# Altium schematic symbol library Connectors.SchLib: 35 symbols
Pins are listed as number, name and electrical type; pins without a type are passive.

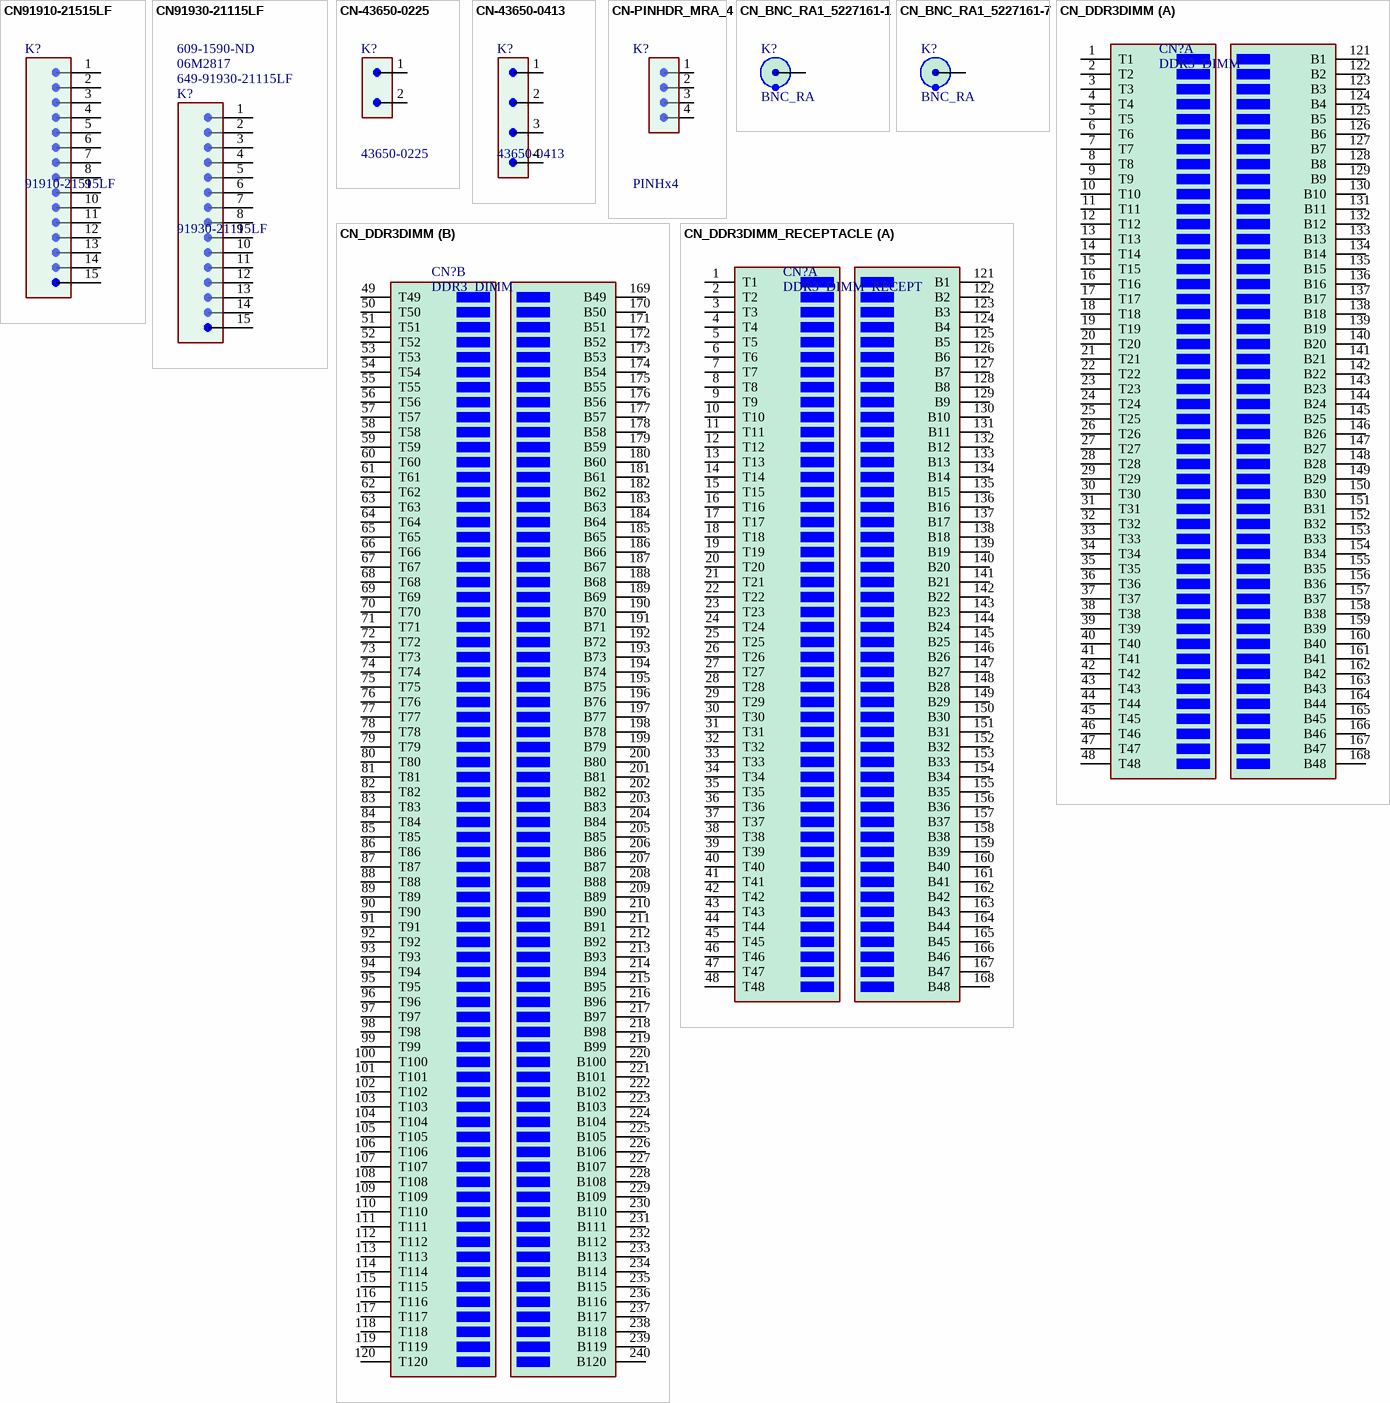
[diagram p0: symbols CN91910-21515LF to CN_DDR3DIMM_RECEPTACLE]

## CN91910-21515LF
designator K?, comment 91910-21515LF
Connector FCI 15 pin R1mm low profile vertical male; Tech: SMDR; Manufacturer: FCI; Manufacturer No: 91910-21515LF; Package: FCI HEADER; Supplier 1: Newark; Supplier Part Number 1: 06M2748; Supplier 2: Mouser; Supplier Part Number 2: 649-91910-21515LF; Supplier 3: Digi-Key; Supplier Part Number 3: 609-1581-ND
signal-integrity model Model Name (Model Description)
footprint CN-91910-21515LF (Connector FCI 15 pin R1mm low profile vertical male)
pins: 1, 2, 3, 4, 5, 6, 7, 8, 9, 10, 11, 12, 13, 14, 15
1 alternate drawing of the same symbol

## CN91930-21115LF
designator K?, comment 91930-21115LF  Supplier Part Number 1: 649-91930-21115LF  Supplier Part Number 2: 06M2817  Supplier Part Number 3: 609-1590-ND
Connector FCI 15 pin R1mm low profile vertical female; Tech: SMDR; Manufacturer: FCI; Manufacturer No: 91930-21115LF; Package: FCI RECPT; Supplier 1: Mouser; Supplier 2: Newark; Supplier 3: Digi-Key
signal-integrity model Model Name (Model Description)
footprint CN-91930-21115LF (Connector FCI 15 pin R1mm low profile vertical female)
pins: 1, 2, 3, 4, 5, 6, 7, 8, 9, 10, 11, 12, 13, 14, 15
1 alternate drawing of the same symbol

## CN-43650-0225
designator K?, comment 43650-0225
Connector Header 2 pin vertical SMD 3mm 4A; Manufacturer No: 0436500225; Manufacturer: Molex; Tech: THDW; Package: MIcroFIT 2pin; Supplier 1: Mouser; Supplier Part Number 1: 538-43650-0225; Supplier 2: Digi-Key; Supplier Part Number 2: WM2638DKR-ND
signal-integrity model Model Name (Model Description)
footprint CN43650-0225 (CN 2 pin Male vertical SMD R3.0)
pins: 1, 2
1 alternate drawing of the same symbol

## CN-43650-0413
designator K?, comment 43650-0413
Connector Header 4 pin rigth-angle SMD 3mm 4A; Manufacturer No: 436500413; Manufacturer: Molex; Tech: SMDR; Package: MIcroFIT 4pin; Supplier 1: Digi-Key; Supplier Part Number 1: WM9176CT-ND; Supplier 2: Mouser; Supplier Part Number 2: 538-43650-0413
signal-integrity model Model Name (Model Description)
footprint CN43650-0413 (CN 4 pin Male right-angle SMD R3.0)
pins: 1, 2, 3, 4
1 alternate drawing of the same symbol

## CN-PINHDR_MRA_4
designator K?, comment PINHx4
Pin header 2.54mm male 4pins rigth angle; Manufacturer: FCI; Manufacturer No: 68016-104HLF; Tech: SMDR; Package: FCI RECPT; Supplier 1: Mouser; Supplier 2: Newark; Supplier 3: Digi-Key; Supplier Part Number 1: 649-68016-104HLF; Supplier Part Number 2: 51Y8063; Supplier Part Number 3: 609-3312-ND
signal-integrity model Model Name (Model Description)
footprint PINHDR1X4_RA (Pin header 1x4 pin R2.54mm right angle)
pins: 1, 2, 3, 4
1 alternate drawing of the same symbol

## CN_BNC_RA1_5227161-1
designator K?, comment BNC_RA
BNC connector PCB Rigth Angle, Female, 4GHz, Through hole; Manufacturer No: 5227161-1; Manufacturer: TE Connectivity; Tech: THDM; Package: BNC; Supplier 1: Mouser; Supplier Part Number 1: 571-5227161-1; Supplier 2: Newark; Supplier Part Number 2: 42K8695; Supplier 3: Digi-Key; Supplier Part Number 3: A32244-ND
signal-integrity model Model Name (Model Description)
footprint CNBNCPCBH3 (Tyco BNC PCB horizontal 1-1337494-0)
pins: 1, 2

## CN_BNC_RA1_5227161-7
designator K?, comment BNC_RA
BNC connector PCB Rigth Angle, Female, 4GHz, Through hole, Low Profile; Manufacturer No: 5227161-7; Manufacturer: TE Connectivity; Tech: THDM; Package: BNC; Supplier 1: Mouser; Supplier Part Number 1: 571-5227161-7; Supplier 2: Digi-Key; Supplier Part Number 2: A32260-ND
signal-integrity model Model Name (Model Description)
footprint CNBNCPCBH4 (TE BNC PCB Right Angle 5227161-7)
pins: 1, 2

## CN_DDR3DIMM
designator CN?, comment DDR3_DIMM  (mechanical)
DDR3 DIMM Card Edge Connection
footprint DDR3_DIMM (DDR3 DIMM module pin setting and layout)
part A pins: 1 T1, 2 T2, 3 T3, 4 T4, 5 T5, 6 T6, 7 T7, 8 T8, 9 T9, 10 T10, 11 T11, 12 T12, 13 T13, 14 T14, 15 T15, 16 T16, 17 T17, 18 T18, 19 T19, 20 T20, 21 T21, 22 T22, 23 T23, 24 T24, 25 T25, 26 T26, 27 T27, 28 T28, 29 T29, 30 T30, 31 T31, 32 T32, 33 T33, 34 T34, 35 T35, 36 T36, 37 T37, 38 T38, 39 T39, 40 T40, 41 T41, 42 T42, 43 T43, 44 T44, 45 T45, 46 T46, 47 T47, 48 T48, 121 B1, 122 B2, 123 B3, 124 B4, 125 B5, 126 B6, 127 B7, 128 B8, 129 B9, 130 B10, 131 B11, 132 B12, 133 B13, 134 B14, 135 B15, 136 B16, 137 B17, 138 B18, 139 B19, 140 B20, 141 B21, 142 B22, 143 B23, 144 B24, 145 B25, 146 B26, 147 B27, 148 B28, 149 B29, 150 B30, 151 B31, 152 B32, 153 B33, 154 B34, 155 B35, 156 B36, 157 B37, 158 B38, 159 B39, 160 B40, 161 B41, 162 B42, 163 B43, 164 B44, 165 B45, 166 B46, 167 B47, 168 B48
part B pins: 49 T49, 50 T50, 51 T51, 52 T52, 53 T53, 54 T54, 55 T55, 56 T56, 57 T57, 58 T58, 59 T59, 60 T60, 61 T61, 62 T62, 63 T63, 64 T64, 65 T65, 66 T66, 67 T67, 68 T68, 69 T69, 70 T70, 71 T71, 72 T72, 73 T73, 74 T74, 75 T75, 76 T76, 77 T77, 78 T78, 79 T79, 80 T80, 81 T81, 82 T82, 83 T83, 84 T84, 85 T85, 86 T86, 87 T87, 88 T88, 89 T89, 90 T90, 91 T91, 92 T92, 93 T93, 94 T94, 95 T95, 96 T96, 97 T97, 98 T98, 99 T99, 100 T100, 101 T101, 102 T102, 103 T103, 104 T104, 105 T105, 106 T106, 107 T107, 108 T108, 109 T109, 110 T110, 111 T111, 112 T112, 113 T113, 114 T114, 115 T115, 116 T116, 117 T117, 118 T118, 119 T119, 120 T120, 169 B49, 170 B50, 171 B51, 172 B52, 173 B53, 174 B54, 175 B55, 176 B56, 177 B57, 178 B58, 179 B59, 180 B60, 181 B61, 182 B62, 183 B63, 184 B64, 185 B65, 186 B66, 187 B67, 188 B68, 189 B69, 190 B70, 191 B71, 192 B72, 193 B73, 194 B74, 195 B75, 196 B76, 197 B77, 198 B78, 199 B79, 200 B80, 201 B81, 202 B82, 203 B83, 204 B84, 205 B85, 206 B86, 207 B87, 208 B88, 209 B89, 210 B90, 211 B91, 212 B92, 213 B93, 214 B94, 215 B95, 216 B96, 217 B97, 218 B98, 219 B99, 220 B100, 221 B101, 222 B102, 223 B103, 224 B104, 225 B105, 226 B106, 227 B107, 228 B108, 229 B109, 230 B110, 231 B111, 232 B112, 233 B113, 234 B114, 235 B115, 236 B116, 237 B117, 238 B118, 239 B119, 240 B120
1 alternate drawing of the same symbol

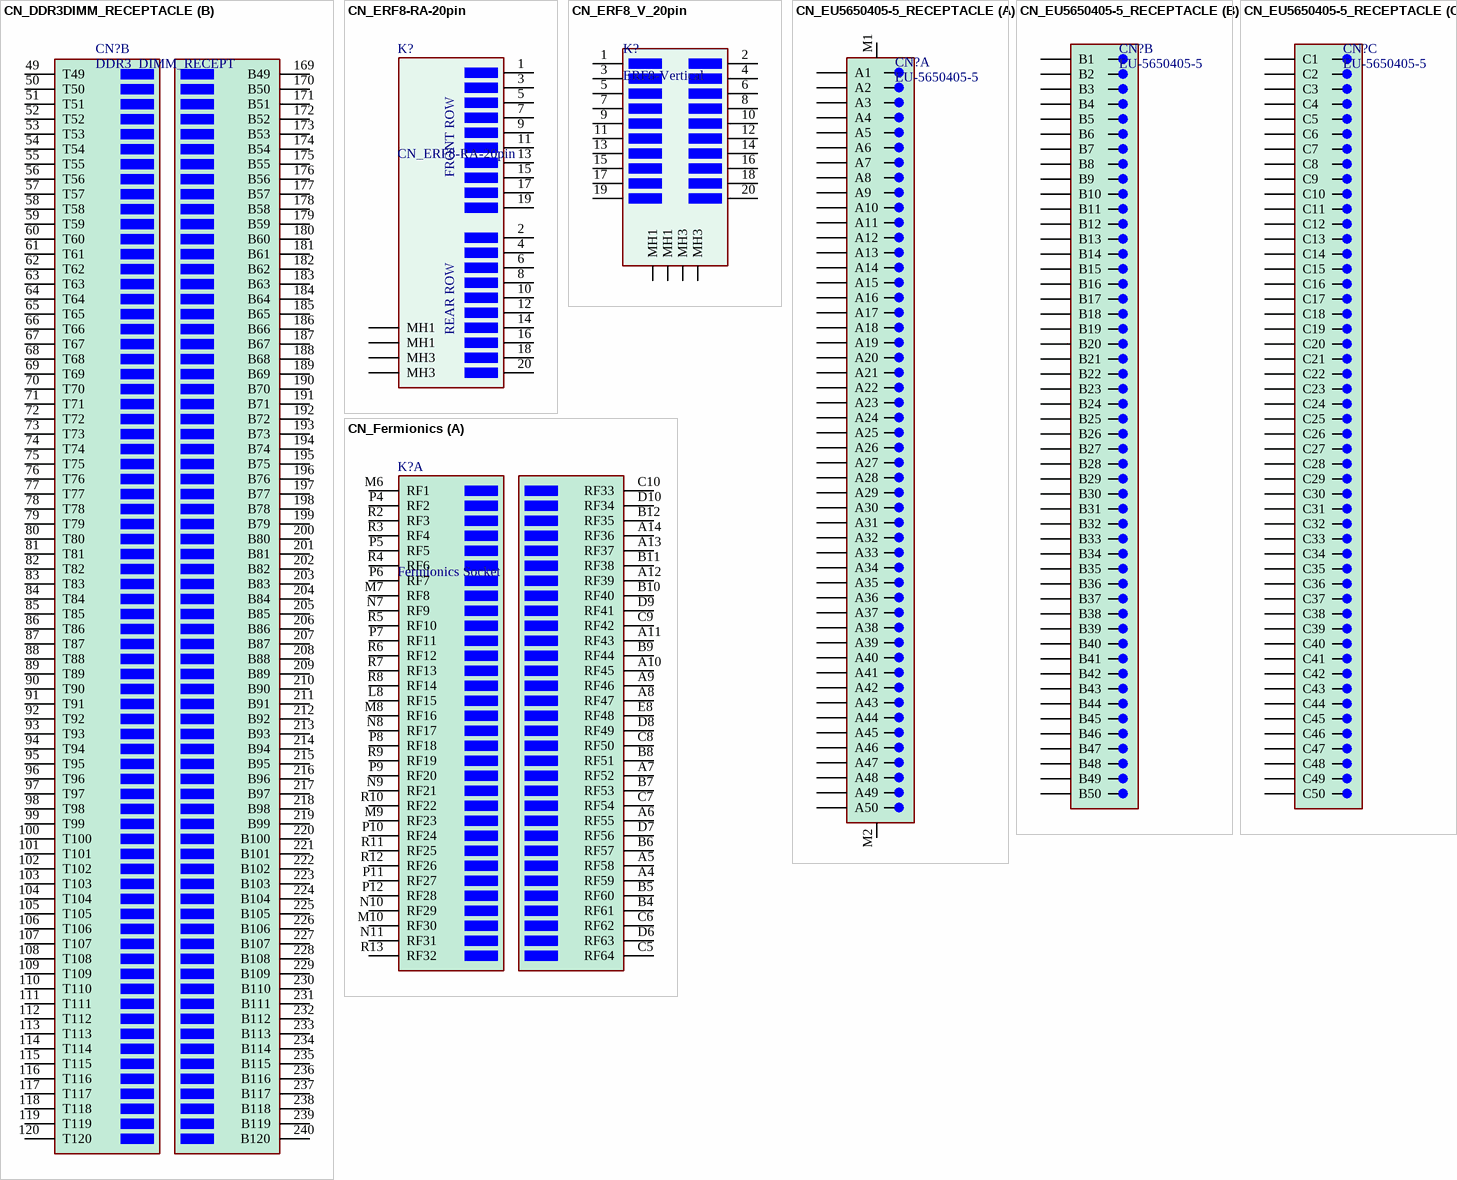
[diagram p1: symbols CN_DDR3DIMM_RECEPTACLE to CN_Fermionics]

## CN_DDR3DIMM_RECEPTACLE
designator CN?, comment DDR3_DIMM_RECEPT
DDR3 DIMM PCB Socket 240pin; Manufacturer: TE Connectivity; Manufacturer No: 1-1932000-1; Tech: THDW; Package: 240pin DIMM; Supplier 1: Mouser; Supplier Part Number 1: 571-1-1932000-1; Supplier 2: Digi-Key; Supplier Part Number 2: A97917-ND
footprint DDR3_DIMM_Socket (DDR3 DIMM PCB Socket with Latch)
part A pins: 1 T1, 2 T2, 3 T3, 4 T4, 5 T5, 6 T6, 7 T7, 8 T8, 9 T9, 10 T10, 11 T11, 12 T12, 13 T13, 14 T14, 15 T15, 16 T16, 17 T17, 18 T18, 19 T19, 20 T20, 21 T21, 22 T22, 23 T23, 24 T24, 25 T25, 26 T26, 27 T27, 28 T28, 29 T29, 30 T30, 31 T31, 32 T32, 33 T33, 34 T34, 35 T35, 36 T36, 37 T37, 38 T38, 39 T39, 40 T40, 41 T41, 42 T42, 43 T43, 44 T44, 45 T45, 46 T46, 47 T47, 48 T48, 121 B1, 122 B2, 123 B3, 124 B4, 125 B5, 126 B6, 127 B7, 128 B8, 129 B9, 130 B10, 131 B11, 132 B12, 133 B13, 134 B14, 135 B15, 136 B16, 137 B17, 138 B18, 139 B19, 140 B20, 141 B21, 142 B22, 143 B23, 144 B24, 145 B25, 146 B26, 147 B27, 148 B28, 149 B29, 150 B30, 151 B31, 152 B32, 153 B33, 154 B34, 155 B35, 156 B36, 157 B37, 158 B38, 159 B39, 160 B40, 161 B41, 162 B42, 163 B43, 164 B44, 165 B45, 166 B46, 167 B47, 168 B48
part B pins: 49 T49, 50 T50, 51 T51, 52 T52, 53 T53, 54 T54, 55 T55, 56 T56, 57 T57, 58 T58, 59 T59, 60 T60, 61 T61, 62 T62, 63 T63, 64 T64, 65 T65, 66 T66, 67 T67, 68 T68, 69 T69, 70 T70, 71 T71, 72 T72, 73 T73, 74 T74, 75 T75, 76 T76, 77 T77, 78 T78, 79 T79, 80 T80, 81 T81, 82 T82, 83 T83, 84 T84, 85 T85, 86 T86, 87 T87, 88 T88, 89 T89, 90 T90, 91 T91, 92 T92, 93 T93, 94 T94, 95 T95, 96 T96, 97 T97, 98 T98, 99 T99, 100 T100, 101 T101, 102 T102, 103 T103, 104 T104, 105 T105, 106 T106, 107 T107, 108 T108, 109 T109, 110 T110, 111 T111, 112 T112, 113 T113, 114 T114, 115 T115, 116 T116, 117 T117, 118 T118, 119 T119, 120 T120, 169 B49, 170 B50, 171 B51, 172 B52, 173 B53, 174 B54, 175 B55, 176 B56, 177 B57, 178 B58, 179 B59, 180 B60, 181 B61, 182 B62, 183 B63, 184 B64, 185 B65, 186 B66, 187 B67, 188 B68, 189 B69, 190 B70, 191 B71, 192 B72, 193 B73, 194 B74, 195 B75, 196 B76, 197 B77, 198 B78, 199 B79, 200 B80, 201 B81, 202 B82, 203 B83, 204 B84, 205 B85, 206 B86, 207 B87, 208 B88, 209 B89, 210 B90, 211 B91, 212 B92, 213 B93, 214 B94, 215 B95, 216 B96, 217 B97, 218 B98, 219 B99, 220 B100, 221 B101, 222 B102, 223 B103, 224 B104, 225 B105, 226 B106, 227 B107, 228 B108, 229 B109, 230 B110, 231 B111, 232 B112, 233 B113, 234 B114, 235 B115, 236 B116, 237 B117, 238 B118, 239 B119, 240 B120
1 alternate drawing of the same symbol

## CN_ERF8-RA-20pin
designator K?  (no BOM)
Samtech ERF8 Rigth Angle Multicoax 20pin; Manufacturer No: ERF8⁃010⁃01⁃S⁃D⁃RA⁃L⁃TR; Tech: SMDR; Package: SMD-RA; Manufacturer: Samtech
signal-integrity model Model Name (Model Description)
footprint CN_ERF8_RA_10pin (Connector Samtec Multicoax ERF8 SMD Rigth Angle)
pins: 1 F1, 2 F2, 3 F3, 4 F4, 5 F5, 6 F6, 7 F7, 8 F8, 9 F9, 10 F10, 11 R11, 12 R12, 13 R13, 14 R14, 15 R15, 16 R16, 17 R17, 18 R18, 19 R19, 20 R20, MH1, MH1, MH3, MH3
1 alternate drawing of the same symbol
text: FRONT ROW; REAR ROW

## CN_ERF8_V_20pin
designator K?, comment ERF8-Vertical
Samtec ERF8 Vertical 20pin Multicoax; Manufacturer No: ERF8-010-05.0-L-DV-L-TR; Tech: SMDR; Package: 20 pin; Manufacturer: Samtec
footprint CN_ERF8_V_20pin (ERF8-010-05.0-L-DV-L-TR)
pins: 1 F1, 2 F2, 3 F3, 4 F4, 5 F5, 6 F6, 7 F7, 8 F8, 9 F9, 10 F10, 11 R11, 12 R12, 13 R13, 14 R14, 15 R15, 16 R16, 17 R17, 18 R18, 19 R19, 20 R20, MH1, MH1, MH3, MH3
1 alternate drawing of the same symbol

## CN_EU5650405-5_RECEPTACLE
designator CN?, comment EU-5650405-5
150pin Europacard 2.54mm Connector; Manufacturer: TE Connectivity; Tech: THDW; Manufacturer No: 5650405-5; Package: 150pin EU; Supplier 1: Mouser; Supplier Part Number 1: 571-5650405-5; Supplier 2: Digi-Key; Supplier Part Number 2: A32848-ND; Supplier 3: Newark; Supplier Part Number 3: 19R2949
footprint EU-5650405-5 (Eurocard PCB Socket 2.54mm)
part A pins: A1, A2, A3, A4, A5, A6, A7, A8, A9, A10, A11, A12, A13, A14, A15, A16, A17, A18, A19, A20, A21, A22, A23, A24, A25, A26, A27, A28, A29, A30, A31, A32, A33, A34, A35, A36, A37, A38, A39, A40, A41, A42, A43, A44, A45, A46, A47, A48, A49, A50, M1, M2
part B pins: B1, B2, B3, B4, B5, B6, B7, B8, B9, B10, B11, B12, B13, B14, B15, B16, B17, B18, B19, B20, B21, B22, B23, B24, B25, B26, B27, B28, B29, B30, B31, B32, B33, B34, B35, B36, B37, B38, B39, B40, B41, B42, B43, B44, B45, B46, B47, B48, B49, B50
part C pins: C1, C2, C3, C4, C5, C6, C7, C8, C9, C10, C11, C12, C13, C14, C15, C16, C17, C18, C19, C20, C21, C22, C23, C24, C25, C26, C27, C28, C29, C30, C31, C32, C33, C34, C35, C36, C37, C38, C39, C40, C41, C42, C43, C44, C45, C46, C47, C48, C49, C50
1 alternate drawing of the same symbol

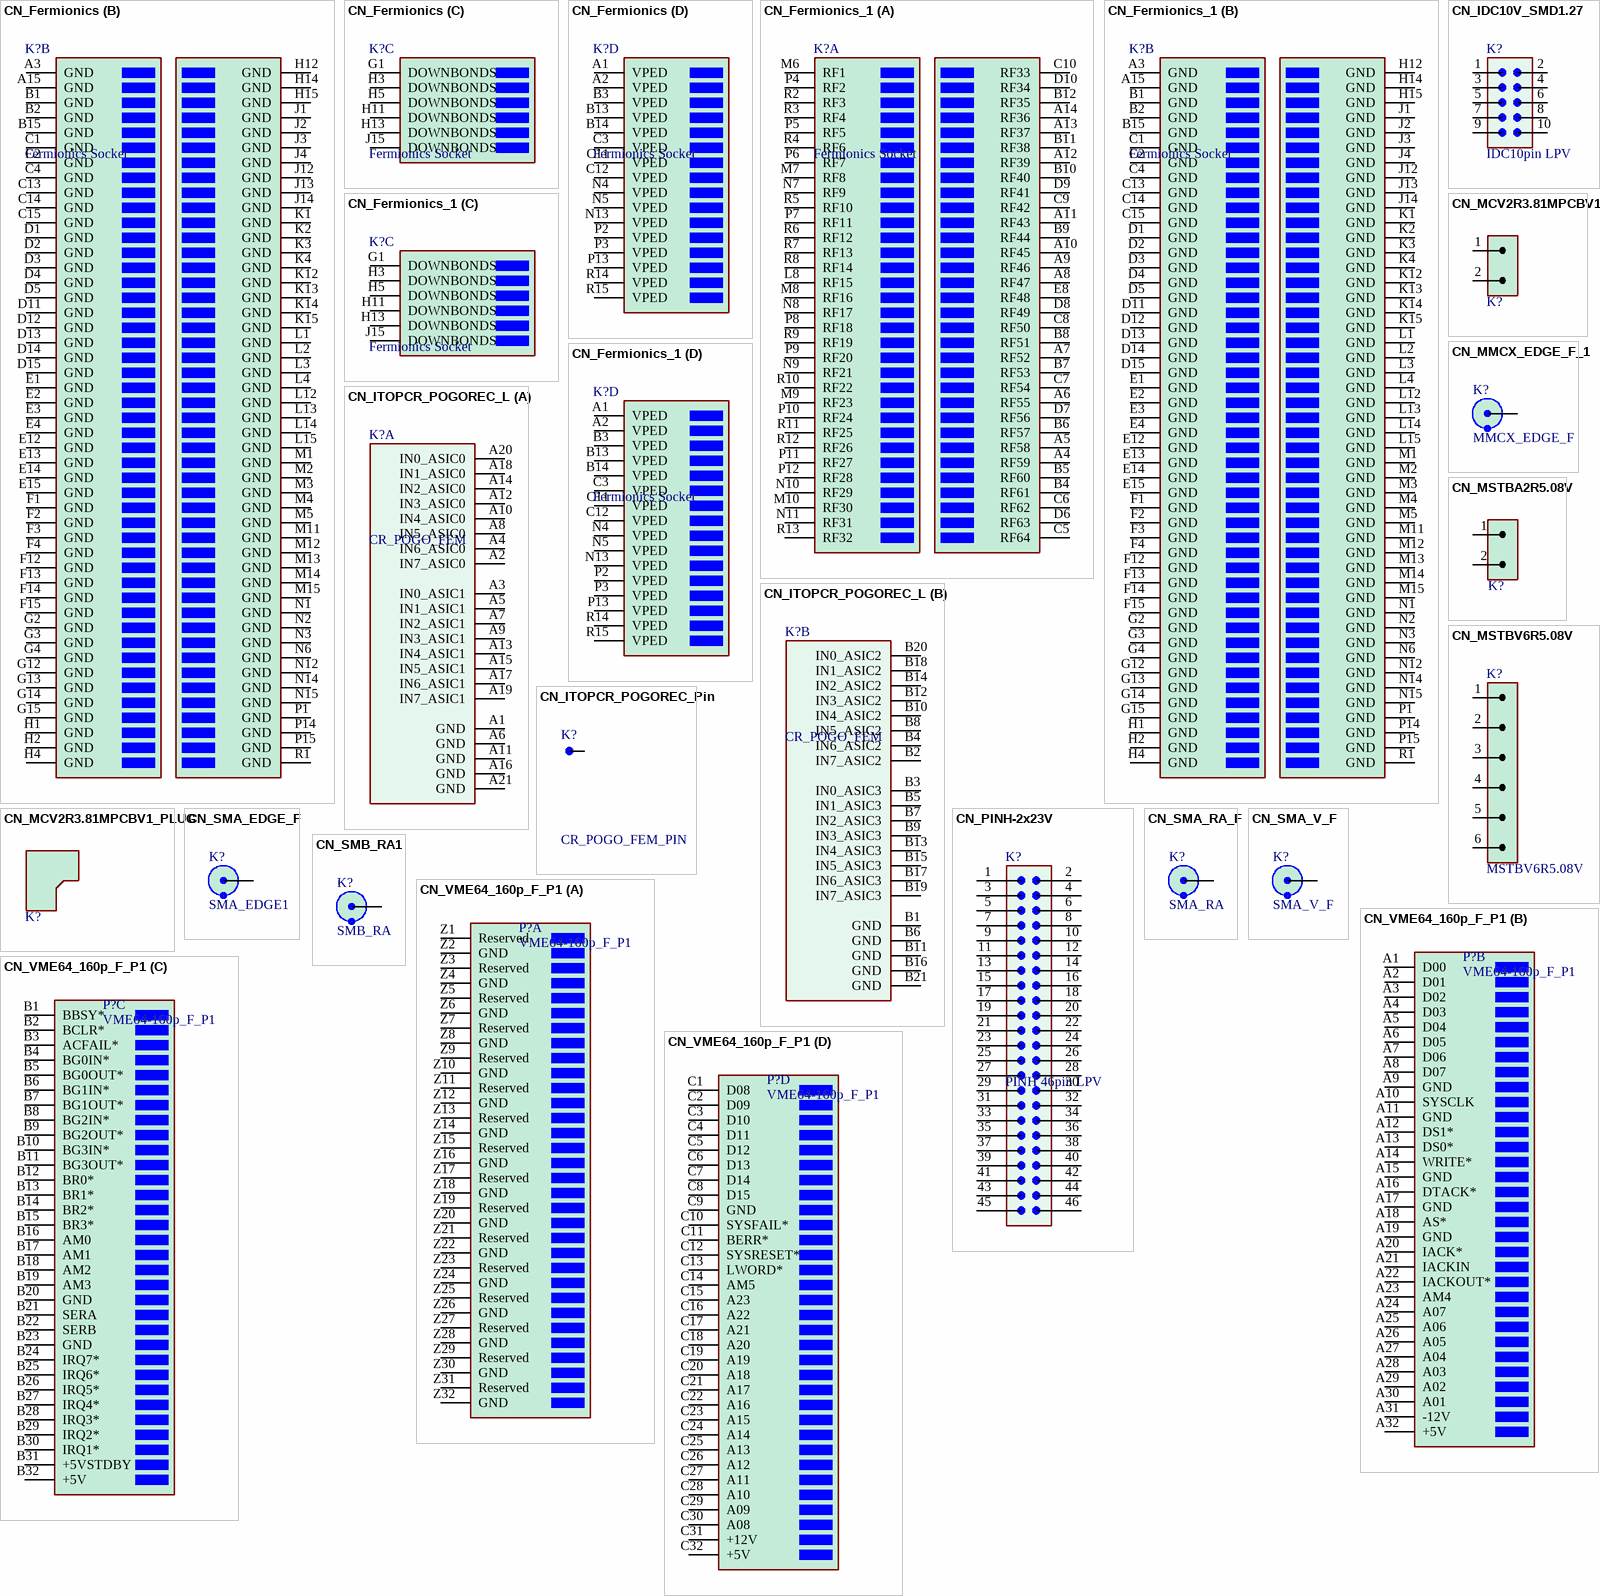
[diagram p2: symbols CN_Fermionics to CN_VME64_160p_F_P1]

## CN_Fermionics
designator K?, comment Fermionics Socket
Fermionics Socket PGA15x15; Manufacturer No: A315-ND; Manufacturer: Aries Electronics; Tech: THDW; Package: PGA 15x15; Supplier 1: Mouser; Supplier Part Number 1: 535-225-PRS15001-12; Supplier 2: Newark; Supplier Part Number 2: 33P9194; Supplier 3: Digi-Key; Supplier Part Number 3: A315-ND
signal-integrity model Model Name (Model Description)
footprint Fermionics Socket 225v2 (Fermionics Socket 225 - Rotated Pinout to match Sensor)
part A pins: A4 RF59, A5 RF58, A6 RF55, A7 RF52, A8 RF47, A9 RF46, A10 RF45, A11 RF43, A12 RF39, A13 RF37, A14 RF36, B4 RF61, B5 RF60, B6 RF57, B7 RF53, B8 RF51, B9 RF44, B10 RF40, B11 RF38, B12 RF35, C5 RF64, C6 RF62, C7 RF54, C8 RF50, C9 RF42, C10 RF33, D6 RF63, D7 RF56, D8 RF49, D9 RF41, D10 RF34, E8 RF48, L8 RF15, M6 RF1, M7 RF8, M8 RF16, M9 RF23, M10 RF30, N7 RF9, N8 RF17, N9 RF21, N10 RF29, N11 RF31, P4 RF2, P5 RF5, P6 RF7, P7 RF11, P8 RF18, P9 RF20, P10 RF24, P11 RF27, P12 RF28, R2 RF3, R3 RF4, R4 RF6, R5 RF10, R6 RF12, R7 RF13, R8 RF14, R9 RF19, R10 RF22, R11 RF25, R12 RF26, R13 RF32
part B pins: A3 GND, A15 GND, B1 GND, B2 GND, B15 GND, C1 GND, C2 GND, C4 GND, C13 GND, C14 GND, C15 GND, D1 GND, D2 GND, D3 GND, D4 GND, D5 GND, D11 GND, D12 GND, D13 GND, D14 GND, D15 GND, E1 GND, E2 GND, E3 GND, E4 GND, E12 GND, E13 GND, E14 GND, E15 GND, F1 GND, F2 GND, F3 GND, F4 GND, F12 GND, F13 GND, F14 GND, F15 GND, G2 GND, G3 GND, G4 GND, G12 GND, G13 GND, G14 GND, G15 GND, H1 GND, H2 GND, H4 GND, H12 GND, H14 GND, H15 GND, J1 GND, J2 GND, J3 GND, J4 GND, J12 GND, J13 GND, J14 GND, K1 GND, K2 GND, K3 GND, K4 GND, K12 GND, K13 GND, K14 GND, K15 GND, L1 GND, L2 GND, L3 GND, L4 GND, L12 GND, L13 GND, L14 GND, L15 GND, M1 GND, M2 GND, M3 GND, M4 GND, M5 GND, M11 GND, M12 GND, M13 GND, M14 GND, M15 GND, N1 GND, N2 GND, N3 GND, N6 GND, N12 GND, N14 GND, N15 GND, P1 GND, P14 GND, P15 GND, R1 GND
part C pins: G1 DOWNBONDS, H3 DOWNBONDS, H5 DOWNBONDS, H11 DOWNBONDS, H13 DOWNBONDS, J15 DOWNBONDS
part D pins: A1 VPED, A2 VPED, B3 VPED, B13 VPED, B14 VPED, C3 VPED, C11 VPED, C12 VPED, N4 VPED, N5 VPED, N13 VPED, P2 VPED, P3 VPED, P13 VPED, R14 VPED, R15 VPED
1 alternate drawing of the same symbol

## CN_Fermionics_1
designator K?, comment Fermionics Socket
Fermionics Socket PGA15x15; Manufacturer No: A315-ND; Manufacturer: Aries Electronics; Tech: THDW; Package: PGA 15x15; Supplier 1: Mouser; Supplier Part Number 1: 535-225-PRS15001-12; Supplier 2: Newark; Supplier Part Number 2: 33P9194; Supplier 3: Digi-Key; Supplier Part Number 3: A315-ND
signal-integrity model Model Name (Model Description)
footprint Fermionics Socket 225v2 (Fermionics Socket 225 - Rotated Pinout to match Sensor)
part A pins: A4 RF59, A5 RF58, A6 RF55, A7 RF52, A8 RF47, A9 RF46, A10 RF45, A11 RF43, A12 RF39, A13 RF37, A14 RF36, B4 RF61, B5 RF60, B6 RF57, B7 RF53, B8 RF51, B9 RF44, B10 RF40, B11 RF38, B12 RF35, C5 RF64, C6 RF62, C7 RF54, C8 RF50, C9 RF42, C10 RF33, D6 RF63, D7 RF56, D8 RF49, D9 RF41, D10 RF34, E8 RF48, L8 RF15, M6 RF1, M7 RF8, M8 RF16, M9 RF23, M10 RF30, N7 RF9, N8 RF17, N9 RF21, N10 RF29, N11 RF31, P4 RF2, P5 RF5, P6 RF7, P7 RF11, P8 RF18, P9 RF20, P10 RF24, P11 RF27, P12 RF28, R2 RF3, R3 RF4, R4 RF6, R5 RF10, R6 RF12, R7 RF13, R8 RF14, R9 RF19, R10 RF22, R11 RF25, R12 RF26, R13 RF32
part B pins: A3 GND, A15 GND, B1 GND, B2 GND, B15 GND, C1 GND, C2 GND, C4 GND, C13 GND, C14 GND, C15 GND, D1 GND, D2 GND, D3 GND, D4 GND, D5 GND, D11 GND, D12 GND, D13 GND, D14 GND, D15 GND, E1 GND, E2 GND, E3 GND, E4 GND, E12 GND, E13 GND, E14 GND, E15 GND, F1 GND, F2 GND, F3 GND, F4 GND, F12 GND, F13 GND, F14 GND, F15 GND, G2 GND, G3 GND, G4 GND, G12 GND, G13 GND, G14 GND, G15 GND, H1 GND, H2 GND, H4 GND, H12 GND, H14 GND, H15 GND, J1 GND, J2 GND, J3 GND, J4 GND, J12 GND, J13 GND, J14 GND, K1 GND, K2 GND, K3 GND, K4 GND, K12 GND, K13 GND, K14 GND, K15 GND, L1 GND, L2 GND, L3 GND, L4 GND, L12 GND, L13 GND, L14 GND, L15 GND, M1 GND, M2 GND, M3 GND, M4 GND, M5 GND, M11 GND, M12 GND, M13 GND, M14 GND, M15 GND, N1 GND, N2 GND, N3 GND, N6 GND, N12 GND, N14 GND, N15 GND, P1 GND, P14 GND, P15 GND, R1 GND
part C pins: G1 DOWNBONDS, H3 DOWNBONDS, H5 DOWNBONDS, H11 DOWNBONDS, H13 DOWNBONDS, J15 DOWNBONDS
part D pins: A1 VPED, A2 VPED, B3 VPED, B13 VPED, B14 VPED, C3 VPED, C11 VPED, C12 VPED, N4 VPED, N5 VPED, N13 VPED, P2 VPED, P3 VPED, P13 VPED, R14 VPED, R15 VPED
1 alternate drawing of the same symbol

## CN_IDC10V_SMD1.27
designator K?, comment IDC10pin LPV
Connector IDC 10 pin vertical 1.27mm SMD; Manufacturer No: 20021521-00010T1LF; Manufacturer: FCI; Package: IDC 10pin 1.27; Tech: SMD; Supplier 1: Mouser; Supplier Part Number 1: 649-200215210010T1LF; Supplier 2: Digi-Key; Supplier Part Number 2: 609-4054-ND
signal-integrity model Model Name (Model Description)
footprint CN_20021521-00010T1LF (Pin header 2x5 pin R1.27mm)
pins: 1, 2, 3, 4, 5, 6, 7, 8, 9, 10
1 alternate drawing of the same symbol

## CN_ITOPCR_POGOREC_L
designator K?, comment CR_POGO_FEM  (no BOM)
ITOP Carrier Pogo Pin Female Receptacle; Manufacturer No: 5739-0-18-15-12-27-10-0; Manufacturer: Mill-Max; Tech: SMDR; Package: SMD adapter
signal-integrity model Model Name (Model Description)
footprint CN_IDL_ITOPCARRIER_POGO_INT (Pogo pis Female interface)
part A pins: A1 GND, A2 IN7_ASIC0, A3 IN0_ASIC1, A4 IN6_ASIC0, A5 IN1_ASIC1, A6 GND, A7 IN2_ASIC1, A8 IN5_ASIC0, A9 IN3_ASIC1, A10 IN4_ASIC0, A11 GND, A12 IN3_ASIC0, A13 IN4_ASIC1, A14 IN2_ASIC0, A15 IN5_ASIC1, A16 GND, A17 IN6_ASIC1, A18 IN1_ASIC0, A19 IN7_ASIC1, A20 IN0_ASIC0, A21 GND
part B pins: B1 GND, B2 IN7_ASIC2, B3 IN0_ASIC3, B4 IN6_ASIC2, B5 IN1_ASIC3, B6 GND, B7 IN2_ASIC3, B8 IN5_ASIC2, B9 IN3_ASIC3, B10 IN4_ASIC2, B11 GND, B12 IN3_ASIC2, B13 IN4_ASIC3, B14 IN2_ASIC2, B15 IN5_ASIC3, B16 GND, B17 IN6_ASIC3, B18 IN1_ASIC2, B19 IN7_ASIC3, B20 IN0_ASIC2, B21 GND
1 alternate drawing of the same symbol

## CN_ITOPCR_POGOREC_Pin
designator K?, comment CR_POGO_FEM_PIN
ITOP Carrier Pogo Pin Female Receptacle; Manufacturer No: 7937-0-00-15-00-00-03-0; Manufacturer: Mill-Max; Tech: SMDR; Package: SMD adapter; Supplier 1: Mouser; Supplier Part Number 1: 575-7937000150000030; Supplier 2: Digi-Key; Supplier Part Number 2: ED90501-ND
signal-integrity model Model Name (Model Description)
1 alternate drawing of the same symbol

## CN_MCV2R3.81MPCBV1
designator K?, comment MCV1.5/2-G-3.81  (value not drawn)
Combicon header 2 pin vertical closed R3.81mm; Manufacturer: Phoenix Contact; Manufacturer No: 1843606; Tech: THDW; Package: CN-3.81R; Supplier 1: Mouser; Supplier Part Number 1: 651-1843606; Supplier 2: Digi-Key; Supplier Part Number 2: 277-5733-ND; Supplier 3: Newark; Supplier Part Number 3: 71C4258
footprint MCV1.5/2G-3.81 (COMBICON 2 POL VER 3.81mm)
pins: 1, 2

## CN_MCV2R3.81MPCBV1_PLUG
designator K?, comment MCV1.5/2-G-3.81_PLUG  (value not drawn)
Combicon plug 2 pin closed R3.81mm; Manufacturer: Phoenix Contact; Manufacturer No: 1840366; Tech: THDW; Package: CN-3.81R; Supplier 1: Mouser; Supplier Part Number 1: 651-1840366; Supplier 2: Digi-Key; Supplier Part Number 2: 277-2417-ND; Supplier 3: Newark; Supplier Part Number 3: 15X0353

## CN_MMCX_EDGE_F_1
designator K?, comment MMCX_EDGE_F
MMCX connector PCB Edge, Female, 6GHz, SMD; Manufacturer No: 0734150963; Manufacturer: Molex; Tech: SMDR; Package: SMA; Supplier 1: Digi-Key; Supplier Part Number 1: WM3786DKR-ND; Supplier 2: Mouser; Supplier Part Number 2: 538-73415-0963; Supplier 3: Newark; Supplier Part Number 3: 56R6573
signal-integrity model Model Name (Model Description)
footprint CNMMCX_J_EDGE (MMCX PCB edge female)
pins: 1, 2, 2

## CN_MSTBA2R5.08V
designator K?, comment MSTBA2R5.08V  (value not drawn)
Combicon header 2 pin vertical closed R5.08mm 12A 300V; Manufacturer: Phoenix Contact; Manufacturer No: 1755736; Tech: THDW; Comment2: 12A 300V; Package: MSTBA5.08R; Supplier 1: Mouser; Supplier Part Number 1: 651-1755736; Supplier 2: Newark; Supplier Part Number 2: 71C4143; Supplier 3: Digi-Key; Supplier Part Number 3: 277-1150-ND
footprint CN_PHOENIX_MSTBVA2,5/2-G-5,08 (MSTBVA2,5/2-G-5,08  2pin vertical)
pins: 1, 2

## CN_MSTBV6R5.08V
designator K?, comment MSTBV6R5.08V
Combicon header 6 pin vertical closed R5.08mm 12A 250V; Manufacturer: Phoenix Contact; Manufacturer No: 1755778; Tech: THDW; Comment2: 12A 250V; Package: CN MSTBA3H; Supplier 1: Newark; Supplier Part Number 1: 71C4147; Supplier 2: Digi-Key; Supplier Part Number 2: 277-1154-ND; Supplier 3: Mouser; Supplier Part Number 3: 651-1755778
footprint CN_PHOENIX_MSTBVA2,5/6-G-5,08 (MSTBVA2,5/6-G-5,08  6pin vertical)
pins: 1, 2, 3, 4, 5, 6

## CN_PINH-2x23V
designator K?, comment PINH 46pin LPV
Connector Pin Header 46 pin, vertical, male header, 2.54mm; Manufacturer: Molex; Manufacturer No: 87758-4616; Tech: THDW; Package: IDC male header; Supplier 1: Mouser; Supplier Part Number 1: 538-87758-4616; Supplier 2: Newark; Supplier Part Number 2: 25M5695; Supplier 3: Digi-Key; Supplier Part Number 3: WM18854-ND
signal-integrity model Model Name (Model Description)
footprint PINHDR2X23V (Pin header 2x23 pin R2.54mm)
footprint PINHDR2X23VBBedition (Pin header 2x23 pin R2.54mm)
pins: 1, 2, 3, 4, 5, 6, 7, 8, 9, 10, 11, 12, 13, 14, 15, 16, 17, 18, 19, 20, 21, 22, 23, 24, 25, 26, 27, 28, 29, 30, 31, 32, 33, 34, 35, 36, 37, 38, 39, 40, 41, 42, 43, 44, 45, 46
1 alternate drawing of the same symbol

## CN_SMA_EDGE_F
designator K?, comment SMA_EDGE1
SMA connector PCB Edge, Female, 18GHz, Through hole; Manufacturer No: 0732511150; Manufacturer: Molex; Tech: SMDR; Package: SMA; Supplier 1: Digi-Key; Supplier Part Number 1: WM5534-ND; Supplier 2: Newark; Supplier Part Number 2: 32M0773; Supplier 3: Mouser; Supplier Part Number 3: 538-73251-1150
signal-integrity model Model Name (Model Description)
footprint CNSMAPCBEDGEC2 (SMA PCB edge female W9.54mm)
pins: 1, 2, 3, 4, 5

## CN_SMA_RA_F
designator K?, comment SMA_RA
SMA connector PCB Rigth Angle, Female, 18GHz, Through hole; Manufacturer No: 73251-2200; Manufacturer: Molex; Tech: THDM; Package: SMA; Supplier 1: Digi-Key; Supplier Part Number 1: WM9352-ND; Supplier 2: Mouser; Supplier Part Number 2: 538-73251-2200; Supplier 3: Newark; Supplier Part Number 3: 56R6514
signal-integrity model Model Name (Model Description)
footprint CNSMAPCBH-1 (SMA connector PCB right angle for panel mount in THDW tech.)
pins: 1, 2, 3, 4, 5

## CN_SMA_V_F
designator K?, comment SMA_V_F
SMA connector PCB Vertical, Female, 18GHz, Through hole; Manufacturer No: 0733910070; Manufacturer: Molex; Tech: THDM; Package: SMA; Supplier 1: Digi-Key; Supplier Part Number 1: WM5544-ND; Supplier 2: Mouser; Supplier Part Number 2: 538-73391-0070
signal-integrity model Model Name (Model Description)
footprint CNSMAPCBV (SMA connector PCB vertical R5.0mm)
pins: 1, 2, 3, 4, 5

## CN_SMB_RA1
designator K?, comment SMB_RA
SMB connector PCB Rigth Angle, Female, 4GHz, Through hole; Manufacturer No: 73100-0097; Manufacturer: Molex; Tech: THDM; Package: SMB; Supplier 1: Mouser; Supplier Part Number 1: 538-73100-0097; Supplier 2: Newark; Supplier Part Number 2: 75K6182; Supplier 3: Digi-Key; Supplier Part Number 3: WM5276-ND
signal-integrity model Model Name (Model Description)
footprint CNSMBPCBH-1 (SMB connector PCB horizontal R5.08mm THT)
pins: 1, 2, 3, 4, 5

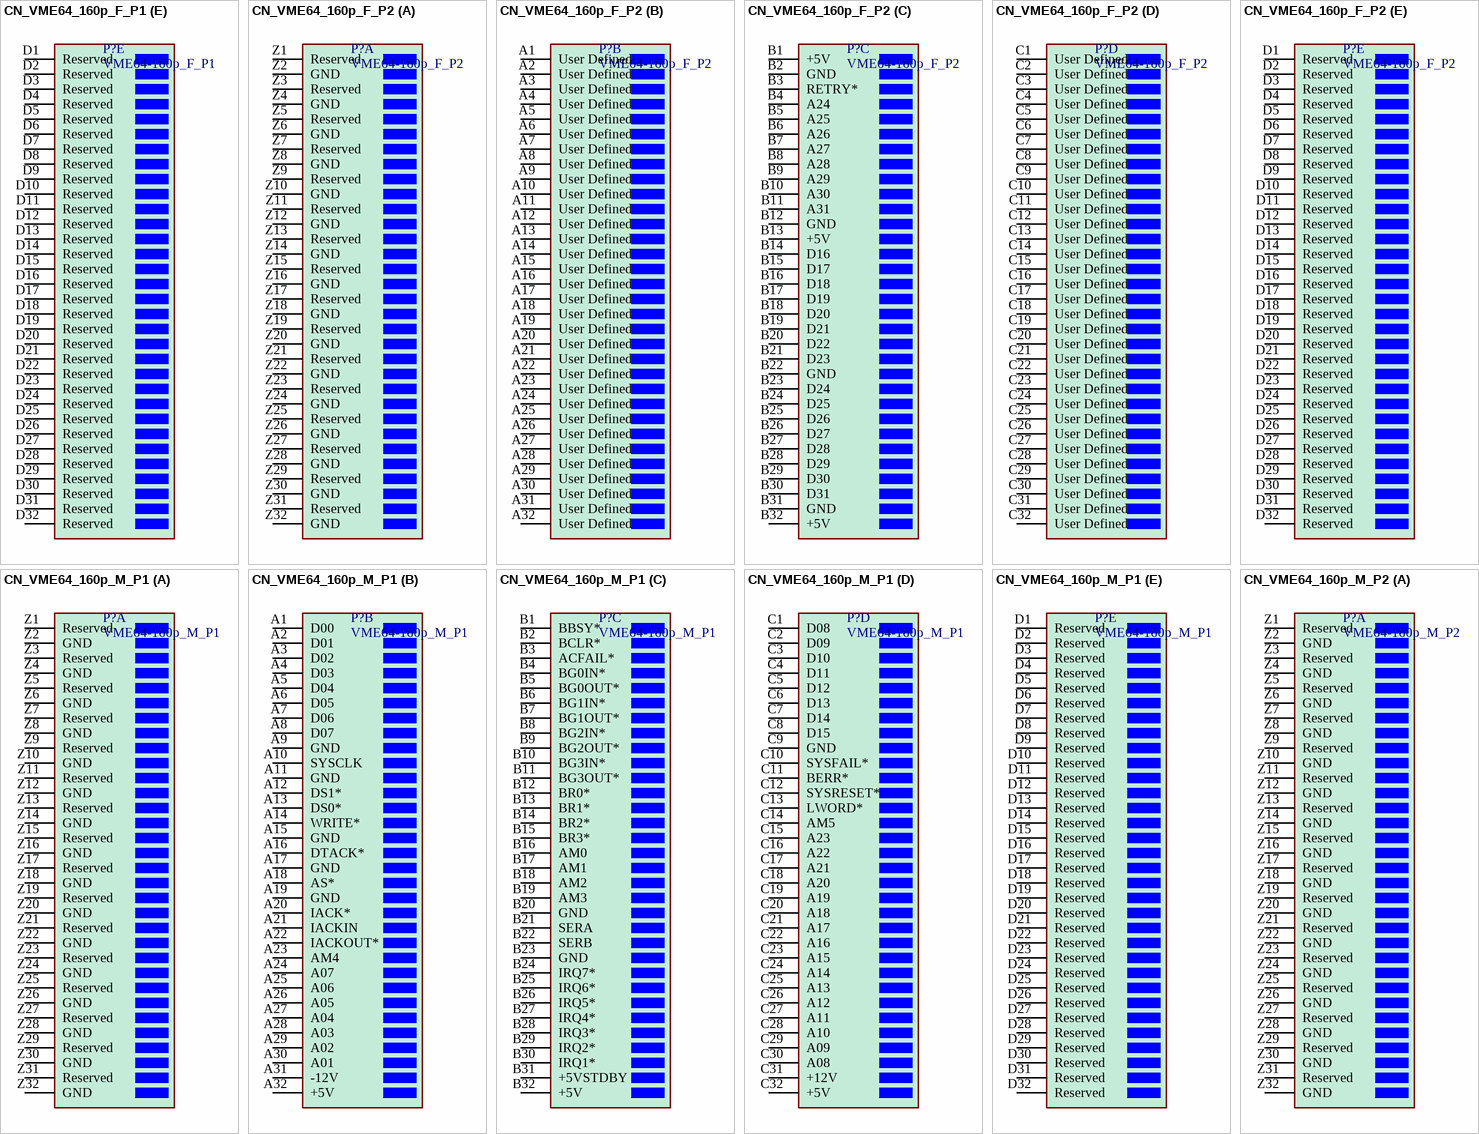
[diagram p3: symbols CN_VME64_160p_F_P1 to CN_VME64_160p_M_P2]

## CN_VME64_160p_F_P1
designator P?, comment VME64-160p_F_P1
VME64 Female standard 160pin DIN41612; Manufacturer: Harting; Manufacturer No: 02041601101; Tech: THDW; Package: 160pin; Supplier 1: Mouser; Supplier Part Number 1: 617-02-04-160-1101; Supplier 2: Newark; Supplier Part Number 2: 79K4437; Supplier 3: Digi-Key; Supplier Part Number 3: 1195-1030-ND
footprint CN_VME64_160pin_F (160pin 2.54mm Pitch VME64 compatible DIN41612 Female)
footprint CN_VME64_160pin_F_RFC (160pin 2.54mm Pitch VME64 compatible DIN41612 Female Inverted pins for RFC)
part A pins: Z1 Reserved, Z2 GND, Z3 Reserved, Z4 GND, Z5 Reserved, Z6 GND, Z7 Reserved, Z8 GND, Z9 Reserved, Z10 GND, Z11 Reserved, Z12 GND, Z13 Reserved, Z14 GND, Z15 Reserved, Z16 GND, Z17 Reserved, Z18 GND, Z19 Reserved, Z20 GND, Z21 Reserved, Z22 GND, Z23 Reserved, Z24 GND, Z25 Reserved, Z26 GND, Z27 Reserved, Z28 GND, Z29 Reserved, Z30 GND, Z31 Reserved, Z32 GND
part B pins: A1 D00, A2 D01, A3 D02, A4 D03, A5 D04, A6 D05, A7 D06, A8 D07, A9 GND, A10 SYSCLK, A11 GND, A12 DS1*, A13 DS0*, A14 WRITE*, A15 GND, A16 DTACK*, A17 GND, A18 AS*, A19 GND, A20 IACK*, A21 IACKIN, A22 IACKOUT*, A23 AM4, A24 A07, A25 A06, A26 A05, A27 A04, A28 A03, A29 A02, A30 A01, A31 -12V, A32 +5V
part C pins: B1 BBSY*, B2 BCLR*, B3 ACFAIL*, B4 BG0IN*, B5 BG0OUT*, B6 BG1IN*, B7 BG1OUT*, B8 BG2IN*, B9 BG2OUT*, B10 BG3IN*, B11 BG3OUT*, B12 BR0*, B13 BR1*, B14 BR2*, B15 BR3*, B16 AM0, B17 AM1, B18 AM2, B19 AM3, B20 GND, B21 SERA, B22 SERB, B23 GND, B24 IRQ7*, B25 IRQ6*, B26 IRQ5*, B27 IRQ4*, B28 IRQ3*, B29 IRQ2*, B30 IRQ1*, B31 +5VSTDBY, B32 +5V
part D pins: C1 D08, C2 D09, C3 D10, C4 D11, C5 D12, C6 D13, C7 D14, C8 D15, C9 GND, C10 SYSFAIL*, C11 BERR*, C12 SYSRESET*, C13 LWORD*, C14 AM5, C15 A23, C16 A22, C17 A21, C18 A20, C19 A19, C20 A18, C21 A17, C22 A16, C23 A15, C24 A14, C25 A13, C26 A12, C27 A11, C28 A10, C29 A09, C30 A08, C31 +12V, C32 +5V
part E pins: D1 Reserved, D2 Reserved, D3 Reserved, D4 Reserved, D5 Reserved, D6 Reserved, D7 Reserved, D8 Reserved, D9 Reserved, D10 Reserved, D11 Reserved, D12 Reserved, D13 Reserved, D14 Reserved, D15 Reserved, D16 Reserved, D17 Reserved, D18 Reserved, D19 Reserved, D20 Reserved, D21 Reserved, D22 Reserved, D23 Reserved, D24 Reserved, D25 Reserved, D26 Reserved, D27 Reserved, D28 Reserved, D29 Reserved, D30 Reserved, D31 Reserved, D32 Reserved
1 alternate drawing of the same symbol

## CN_VME64_160p_F_P2
designator P?, comment VME64-160p_F_P2
VME64 Female standard 160pin DIN41612; Manufacturer: Harting; Manufacturer No: 02041601101; Tech: THDW; Package: 160pin; Supplier 1: Mouser; Supplier Part Number 1: 617-02-04-160-1101; Supplier 2: Newark; Supplier Part Number 2: 79K4437; Supplier 3: Digi-Key; Supplier Part Number 3: 1195-1030-ND
footprint CN_VME64_160pin_F (160pin 2.54mm Pitch VME64 compatible DIN41612 Female)
part A pins: Z1 Reserved, Z2 GND, Z3 Reserved, Z4 GND, Z5 Reserved, Z6 GND, Z7 Reserved, Z8 GND, Z9 Reserved, Z10 GND, Z11 Reserved, Z12 GND, Z13 Reserved, Z14 GND, Z15 Reserved, Z16 GND, Z17 Reserved, Z18 GND, Z19 Reserved, Z20 GND, Z21 Reserved, Z22 GND, Z23 Reserved, Z24 GND, Z25 Reserved, Z26 GND, Z27 Reserved, Z28 GND, Z29 Reserved, Z30 GND, Z31 Reserved, Z32 GND
part B pins: A1 User Defined, A2 User Defined, A3 User Defined, A4 User Defined, A5 User Defined, A6 User Defined, A7 User Defined, A8 User Defined, A9 User Defined, A10 User Defined, A11 User Defined, A12 User Defined, A13 User Defined, A14 User Defined, A15 User Defined, A16 User Defined, A17 User Defined, A18 User Defined, A19 User Defined, A20 User Defined, A21 User Defined, A22 User Defined, A23 User Defined, A24 User Defined, A25 User Defined, A26 User Defined, A27 User Defined, A28 User Defined, A29 User Defined, A30 User Defined, A31 User Defined, A32 User Defined
part C pins: B1 +5V, B2 GND, B3 RETRY*, B4 A24, B5 A25, B6 A26, B7 A27, B8 A28, B9 A29, B10 A30, B11 A31, B12 GND, B13 +5V, B14 D16, B15 D17, B16 D18, B17 D19, B18 D20, B19 D21, B20 D22, B21 D23, B22 GND, B23 D24, B24 D25, B25 D26, B26 D27, B27 D28, B28 D29, B29 D30, B30 D31, B31 GND, B32 +5V
part D pins: C1 User Defined, C2 User Defined, C3 User Defined, C4 User Defined, C5 User Defined, C6 User Defined, C7 User Defined, C8 User Defined, C9 User Defined, C10 User Defined, C11 User Defined, C12 User Defined, C13 User Defined, C14 User Defined, C15 User Defined, C16 User Defined, C17 User Defined, C18 User Defined, C19 User Defined, C20 User Defined, C21 User Defined, C22 User Defined, C23 User Defined, C24 User Defined, C25 User Defined, C26 User Defined, C27 User Defined, C28 User Defined, C29 User Defined, C30 User Defined, C31 User Defined, C32 User Defined
part E pins: D1 Reserved, D2 Reserved, D3 Reserved, D4 Reserved, D5 Reserved, D6 Reserved, D7 Reserved, D8 Reserved, D9 Reserved, D10 Reserved, D11 Reserved, D12 Reserved, D13 Reserved, D14 Reserved, D15 Reserved, D16 Reserved, D17 Reserved, D18 Reserved, D19 Reserved, D20 Reserved, D21 Reserved, D22 Reserved, D23 Reserved, D24 Reserved, D25 Reserved, D26 Reserved, D27 Reserved, D28 Reserved, D29 Reserved, D30 Reserved, D31 Reserved, D32 Reserved
1 alternate drawing of the same symbol

## CN_VME64_160p_M_P1
designator P?, comment VME64-160p_M_P1
VME64 Male standard 160pin DIN41612; Manufacturer: Harting; Manufacturer No: 02011602101; Tech: THDW; Package: 160pin; Supplier 1: Mouser; Supplier Part Number 1: 617-02-01-160-2101; Supplier 2: Newark; Supplier Part Number 2: 79K4439; Supplier 3: Digi-Key; Supplier Part Number 3: 1195-1023-ND
footprint CN_VME64_160pin (160pin 2.54mm Pitch VME64 compatible DIN41612)
part A pins: Z1 Reserved, Z2 GND, Z3 Reserved, Z4 GND, Z5 Reserved, Z6 GND, Z7 Reserved, Z8 GND, Z9 Reserved, Z10 GND, Z11 Reserved, Z12 GND, Z13 Reserved, Z14 GND, Z15 Reserved, Z16 GND, Z17 Reserved, Z18 GND, Z19 Reserved, Z20 GND, Z21 Reserved, Z22 GND, Z23 Reserved, Z24 GND, Z25 Reserved, Z26 GND, Z27 Reserved, Z28 GND, Z29 Reserved, Z30 GND, Z31 Reserved, Z32 GND
part B pins: A1 D00, A2 D01, A3 D02, A4 D03, A5 D04, A6 D05, A7 D06, A8 D07, A9 GND, A10 SYSCLK, A11 GND, A12 DS1*, A13 DS0*, A14 WRITE*, A15 GND, A16 DTACK*, A17 GND, A18 AS*, A19 GND, A20 IACK*, A21 IACKIN, A22 IACKOUT*, A23 AM4, A24 A07, A25 A06, A26 A05, A27 A04, A28 A03, A29 A02, A30 A01, A31 -12V, A32 +5V
part C pins: B1 BBSY*, B2 BCLR*, B3 ACFAIL*, B4 BG0IN*, B5 BG0OUT*, B6 BG1IN*, B7 BG1OUT*, B8 BG2IN*, B9 BG2OUT*, B10 BG3IN*, B11 BG3OUT*, B12 BR0*, B13 BR1*, B14 BR2*, B15 BR3*, B16 AM0, B17 AM1, B18 AM2, B19 AM3, B20 GND, B21 SERA, B22 SERB, B23 GND, B24 IRQ7*, B25 IRQ6*, B26 IRQ5*, B27 IRQ4*, B28 IRQ3*, B29 IRQ2*, B30 IRQ1*, B31 +5VSTDBY, B32 +5V
part D pins: C1 D08, C2 D09, C3 D10, C4 D11, C5 D12, C6 D13, C7 D14, C8 D15, C9 GND, C10 SYSFAIL*, C11 BERR*, C12 SYSRESET*, C13 LWORD*, C14 AM5, C15 A23, C16 A22, C17 A21, C18 A20, C19 A19, C20 A18, C21 A17, C22 A16, C23 A15, C24 A14, C25 A13, C26 A12, C27 A11, C28 A10, C29 A09, C30 A08, C31 +12V, C32 +5V
part E pins: D1 Reserved, D2 Reserved, D3 Reserved, D4 Reserved, D5 Reserved, D6 Reserved, D7 Reserved, D8 Reserved, D9 Reserved, D10 Reserved, D11 Reserved, D12 Reserved, D13 Reserved, D14 Reserved, D15 Reserved, D16 Reserved, D17 Reserved, D18 Reserved, D19 Reserved, D20 Reserved, D21 Reserved, D22 Reserved, D23 Reserved, D24 Reserved, D25 Reserved, D26 Reserved, D27 Reserved, D28 Reserved, D29 Reserved, D30 Reserved, D31 Reserved, D32 Reserved
1 alternate drawing of the same symbol

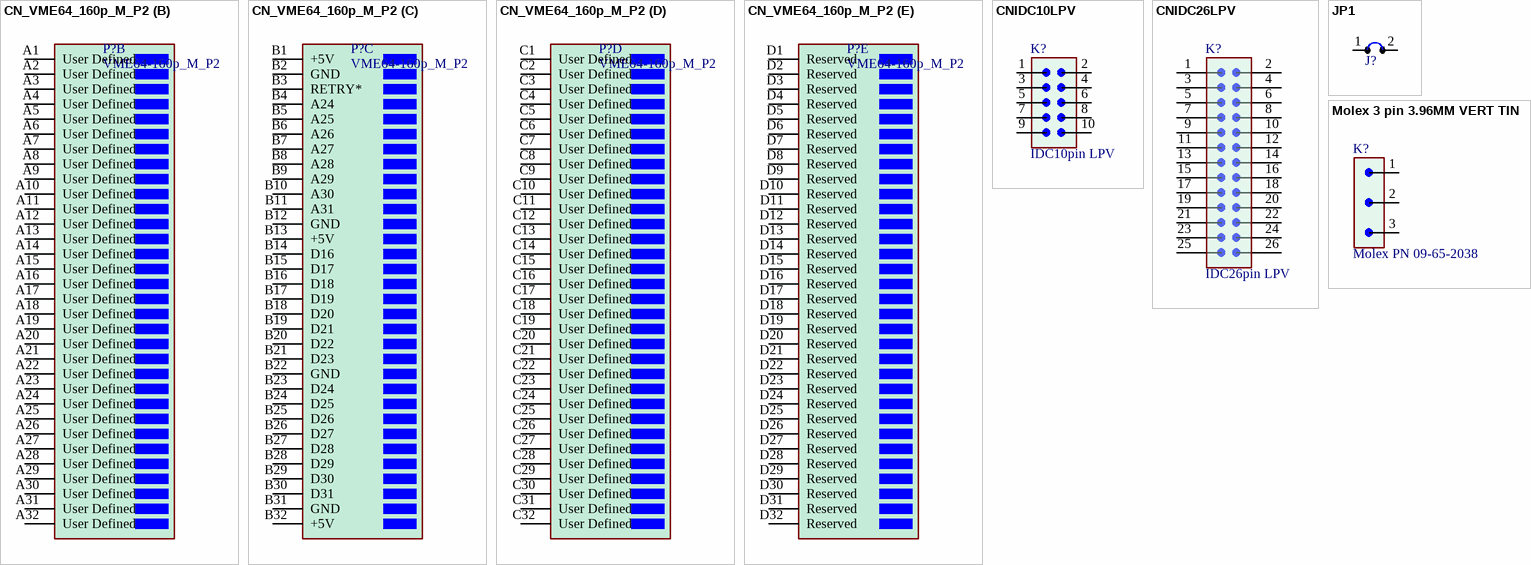
[diagram p4: symbols CN_VME64_160p_M_P2 to Molex 3 pin 3.96MM VERT TIN]

## CN_VME64_160p_M_P2
designator P?, comment VME64-160p_M_P2
VME64 Male standard 160pin DIN41612; Manufacturer: Harting; Manufacturer No: 02011602101; Tech: THDW; Package: 160pin; Supplier 1: Mouser; Supplier Part Number 1: 617-02-01-160-2101; Supplier 2: Newark; Supplier Part Number 2: 79K4439; Supplier 3: Digi-Key; Supplier Part Number 3: 1195-1023-ND
footprint CN_VME64_160pin (160pin 2.54mm Pitch VME64 compatible DIN41612)
part A pins: Z1 Reserved, Z2 GND, Z3 Reserved, Z4 GND, Z5 Reserved, Z6 GND, Z7 Reserved, Z8 GND, Z9 Reserved, Z10 GND, Z11 Reserved, Z12 GND, Z13 Reserved, Z14 GND, Z15 Reserved, Z16 GND, Z17 Reserved, Z18 GND, Z19 Reserved, Z20 GND, Z21 Reserved, Z22 GND, Z23 Reserved, Z24 GND, Z25 Reserved, Z26 GND, Z27 Reserved, Z28 GND, Z29 Reserved, Z30 GND, Z31 Reserved, Z32 GND
part B pins: A1 User Defined, A2 User Defined, A3 User Defined, A4 User Defined, A5 User Defined, A6 User Defined, A7 User Defined, A8 User Defined, A9 User Defined, A10 User Defined, A11 User Defined, A12 User Defined, A13 User Defined, A14 User Defined, A15 User Defined, A16 User Defined, A17 User Defined, A18 User Defined, A19 User Defined, A20 User Defined, A21 User Defined, A22 User Defined, A23 User Defined, A24 User Defined, A25 User Defined, A26 User Defined, A27 User Defined, A28 User Defined, A29 User Defined, A30 User Defined, A31 User Defined, A32 User Defined
part C pins: B1 +5V, B2 GND, B3 RETRY*, B4 A24, B5 A25, B6 A26, B7 A27, B8 A28, B9 A29, B10 A30, B11 A31, B12 GND, B13 +5V, B14 D16, B15 D17, B16 D18, B17 D19, B18 D20, B19 D21, B20 D22, B21 D23, B22 GND, B23 D24, B24 D25, B25 D26, B26 D27, B27 D28, B28 D29, B29 D30, B30 D31, B31 GND, B32 +5V
part D pins: C1 User Defined, C2 User Defined, C3 User Defined, C4 User Defined, C5 User Defined, C6 User Defined, C7 User Defined, C8 User Defined, C9 User Defined, C10 User Defined, C11 User Defined, C12 User Defined, C13 User Defined, C14 User Defined, C15 User Defined, C16 User Defined, C17 User Defined, C18 User Defined, C19 User Defined, C20 User Defined, C21 User Defined, C22 User Defined, C23 User Defined, C24 User Defined, C25 User Defined, C26 User Defined, C27 User Defined, C28 User Defined, C29 User Defined, C30 User Defined, C31 User Defined, C32 User Defined
part E pins: D1 Reserved, D2 Reserved, D3 Reserved, D4 Reserved, D5 Reserved, D6 Reserved, D7 Reserved, D8 Reserved, D9 Reserved, D10 Reserved, D11 Reserved, D12 Reserved, D13 Reserved, D14 Reserved, D15 Reserved, D16 Reserved, D17 Reserved, D18 Reserved, D19 Reserved, D20 Reserved, D21 Reserved, D22 Reserved, D23 Reserved, D24 Reserved, D25 Reserved, D26 Reserved, D27 Reserved, D28 Reserved, D29 Reserved, D30 Reserved, D31 Reserved, D32 Reserved
1 alternate drawing of the same symbol

## CNIDC10LPV
designator K?, comment IDC10pin LPV
Connector IDC 10 pin vertical 2.54mm; Manufacturer No: 302-S101; Manufacturer: On Shore Tech.; Tech: THDW; Comment2: IDC 10pin; Package: IDC 10pin; Supplier 1: Digi-Key; Supplier Part Number 1: ED1543-ND; Supplier 2: Newark; Supplier Part Number 2: 93K5758
signal-integrity model Model Name (Model Description)
footprint CN_IDC10LPV (Connector IDC Low Profile Male Header, Thru-Hole; 10 pin; Vertical; R2.54 mm; Body 20.32 x 9.2 x 9.45 mm (LxWxH))
pins: 1, 2, 3, 4, 5, 6, 7, 8, 9, 10
1 alternate drawing of the same symbol

## CNIDC26LPV
designator K?, comment IDC26pin LPV
Connector IDC 26 pin, vertical, male header, 2.54mm; Manufacturer: TE Connectivity; Manufacturer No: 1761681-9; Tech: THDW; Package: IDC male header; Supplier 1: Mouser; Supplier Part Number 1: 571-1761681-9; Supplier 2: Digi-Key; Supplier Part Number 2: A104973-ND
signal-integrity model Model Name (Model Description)
footprint PINHDR2X13V (Pin header 2x13 pin R2.54mm)
pins: 1, 2, 3, 4, 5, 6, 7, 8, 9, 10, 11, 12, 13, 14, 15, 16, 17, 18, 19, 20, 21, 22, 23, 24, 25, 26
1 alternate drawing of the same symbol

## JP1
designator J?, comment JUMPER_PIN2  (value not drawn)  (no BOM)
Pinheader 1x2 R2.54mm vertical; Sort: 610; Tech: THDW; Package: CN PinHeader 1x2; Price: 0
footprint PINHDR1X2 (Pin header 1x2 pin R2.54mm)
pins: 1, 2

## Molex 3 pin 3.96MM VERT TIN
designator K?, comment Molex PN 09-65-2038
CONN HEADER 3POS 3.96MM VERT TIN; Manufacturer No: 436500413; Package: MIcroFIT 4pin; Manufacturer: Molex; Supplier 1: Digi-Key; Supplier part #: WM18824-ND
pins: 1, 2, 3
1 alternate drawing of the same symbol